# EAGLE library part USB-C (library CanCubeSat1)
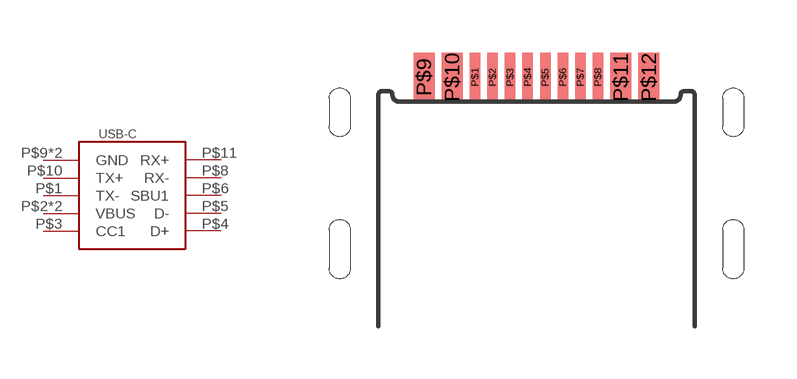
[diagram p0: symbol with the pads of USB-C; footprint USB-C]

Designator prefix -

## USB-C  [USB-C]
P$1  TX-
P$2  VBUS
P$3  CC1
P$4  D+
P$5  D-
P$6  SBU1
P$7  VBUS
P$8  RX-
P$9  GND
P$10  TX+
P$11  RX+
P$12  GND

## Footprint USB-C (pad centres in mm)
smd 0.3 x 1.4: P$1 -1.75,7.1; P$2 -1.25,7.1; P$3 -0.75,7.1; P$4 -0.25,7.1; P$5 0.25,7.1; P$6 0.75,7.1; P$7 1.25,7.1; P$8 1.75,7.1
smd 0.6 x 1.4: P$9 -3.2,7.1; P$10 -2.4,7.1; P$11 2.4,7.1; P$12 3.2,7.1